# Altium footprint library TC2050.PcbLib: 1 footprints
Each footprint in its own frame and in the unit in brackets; x right, y up, seen from the top. Pads: shape width x height; smd on the part's side, far side on the other; paste and mask are expansions set on the pad; w line width, h text height; cw(c..) or ccw(c..) is an arc to the next point about the centre after c.
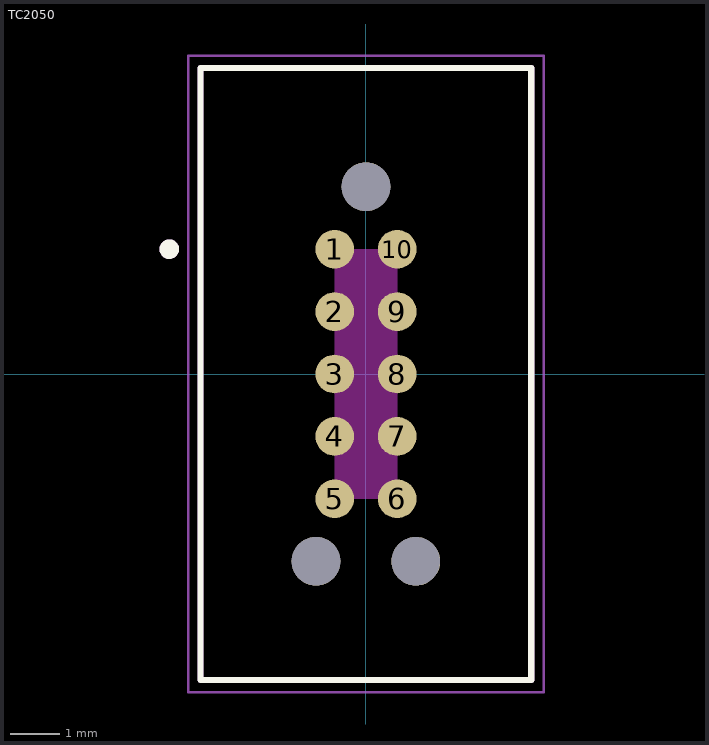
[diagram p0: the footprint, top view; thin cyan lines are the x and y axes]

## TC2050 [mm]
pads (13):
  round 0.787 smd paste-1: 1(-0.635,2.54) 2(-0.635,1.27) 3(-0.635,0) 4(-0.635,-1.27) 5(-0.635,-2.54) 6(0.635,-2.54) 7(0.635,-1.27) 8(0.635,0) 9(0.635,1.27) 10(0.635,2.54)
  round 0.991 hole 0.991 unplated: ""(-1.015,-3.81) ""(0,3.81) ""(1.015,-3.81)
Top Overlay:
  circle w0.2: c-4,2.54 r0.1
  lines w0.127: -3.365,-6.223 -3.365,6.223 3.365,6.223 3.365,-6.223 -3.365,-6.223
Keep-Out Layer:
  region: 0.635,-2.54 -0.635,-2.54 -0.635,2.54 0.635,2.54
  region: 0.635,-2.54 -0.635,-2.54 -0.635,2.54 0.635,2.54
Top 3D Body:
  circle w0.2: c-4,2.54 r0.1
  lines w0.127: -3.365,-6.223 -3.365,6.223 3.365,6.223 3.365,-6.223 -3.365,-6.223
Top Courtyard:
  lines w0.05: -3.615,-6.473 -3.615,6.473 3.615,6.473 3.615,-6.473 -3.615,-6.473